# Altium schematic symbol library TPS73225.SchLib: 1 symbol
Pins are listed as number, name and electrical type; pins without a type are passive.

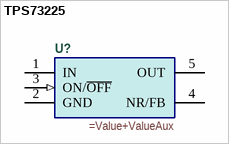
[diagram p0: symbol TPS73225]

## TPS73225
designator U?
=Description
pins: 1 IN (power), 2 GND (power), 3 ON/~{OFF} (in), 4 NR/FB, 5 OUT (power)